# Altium schematic symbol library BAS_52-02V_H6327.SchLib: 1 symbol
Pins are listed as number, name and electrical type; pins without a type are passive.

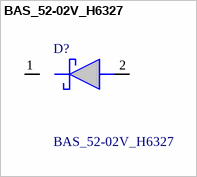
[diagram p0: symbol BAS_52-02V_H6327]

## BAS_52-02V_H6327
designator D?
INFINEON - BAS 52-02V H6327 - RECTIFIER, SCHOTTKY, 0.5A, 45V, SC-79; Geometry.Height: 0.59mm; Mouser Part Number: 726-BAS5202VH6327; Mouser Price/Stock: https://www.mouser.co.uk/ProductDetail/Infineon-Technologies/BAS-52-02V-H6327?qs=mzcOS1kGbgev7wbn%2FVEo9w%3D%3D; Manufacturer_Name: Infineon; Manufacturer_Part_Number: BAS 52-02V H6327; Datasheet Link: https://www.infineon.com/dgdl/Infineon-BAS52SERIES-DS-v01_01-en.pdf?fileId=db3a30432d9b3066012dbc006764413f
footprint SODFL1608X59N
pins: 1 K, 2 A